# Altium footprint library Infrared Phototransistors.PcbLib: 1 footprints
Each footprint in its own frame and in the unit in brackets; x right, y up, seen from the top. Pads: shape width x height; smd on the part's side, far side on the other; paste and mask are expansions set on the pad; w line width, h text height; cw(c..) or ccw(c..) is an arc to the next point about the centre after c.
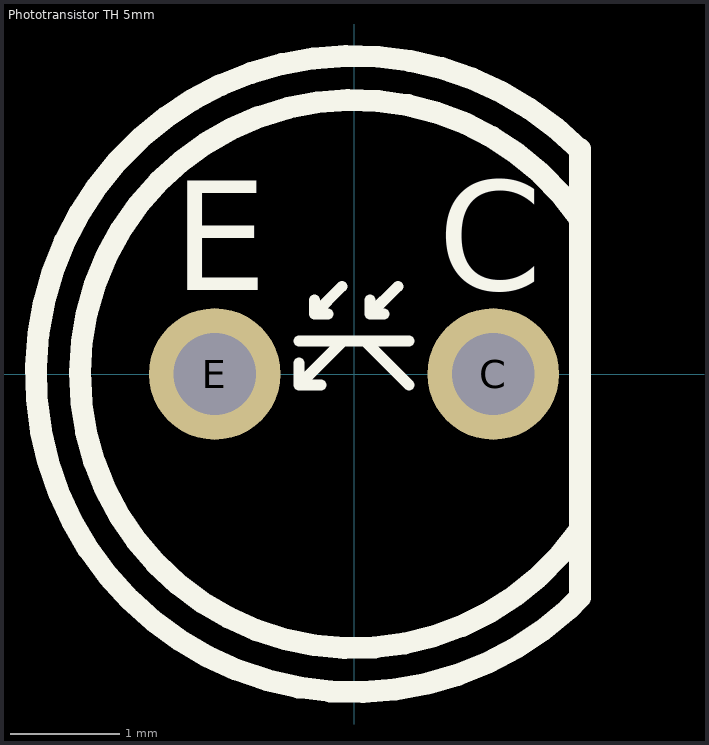
[diagram p0: the footprint, top view; thin cyan lines are the x and y axes]

## Phototransistor TH 5mm [mm] "Through hole 5mm Phototransistor"
height 10
pads (2):
  round 1.2 hole 0.75: C(1.27,0) E(-1.27,0)
Top Overlay:
  lines w0.1: -0.5,0.1 -0.5,-0.1 ; -0.5,0.3 0.5,0.3 ; -0.362,0.673 -0.362,0.546 ; -0.3,-0.1 -0.5,-0.1 ; -0.235,0.546 -0.362,0.546 ; -0.108,0.8 -0.362,0.546 ; -0.1,0.3 -0.5,-0.1 ; 0.1,0.3 0.5,-0.1 ; 0.146,0.673 0.146,0.546 ; 0.273,0.546 0.146,0.546 ; 0.4,0.8 0.146,0.546
  lines w0.2: 2.052,2.052 ccw(c0,0) 1.952,-2.147 2.06,-2.039 2.06,-1.424 ; 2.06,1.416 ccw(c0,0) 2.042,-1.442 2.06,-1.424 ; 2.06,2.052 2.06,-1.424
  text "C" at 0.762,0.762 h1
  text "E" at -1.651,0.762 h1
3D body "User Library-LED5MM.STEP": height 8.7, standoff -6.9, extent -2.95,-2.95 2.95,2.95